# EAGLE library part JST_SH_12 (library Lysenko_Eagle_Lib)
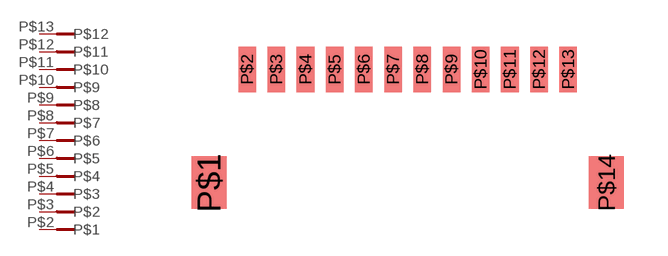
[diagram p35: symbol with the pads of JST_SH_12; footprint JST_SH_12]

Designator prefix -

## JST_SH_12  [JST_SH_12]
P$2  P$1
P$3  P$2
P$4  P$3
P$5  P$4
P$6  P$5
P$7  P$6
P$8  P$7
P$9  P$8
P$10  P$9
P$11  P$10
P$12  P$11
P$13  P$12

## Footprint JST_SH_12 (pad centres in mm)
smd 1.2 x 1.8: P$1 0,0; P$14 13.6,0
smd 0.6 x 1.55: P$2 1.3,3.875; P$3 2.3,3.875; P$4 3.3,3.875; P$5 4.3,3.875; P$6 5.3,3.875; P$7 6.3,3.875; P$8 7.3,3.875; P$9 8.3,3.875; P$10 9.3,3.875; P$11 10.3,3.875; P$12 11.3,3.875; P$13 12.3,3.875